# Altium schematic symbol library SN74HC245PW.SchLib: 1 symbol
Pins are listed as number, name and electrical type; pins without a type are passive.

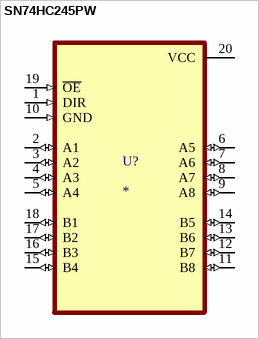
[diagram p0: symbol SN74HC245PW]

## SN74HC245PW
designator U?
MF: {'manufacturer': u'Texas Instruments'}; MP: SN74HC245PW; Value: *; Package: None; Price: None; Availability: Unavailable
footprint SOP65P640X120-20N
pins: 1 DIR (in), 2 A1 (io), 3 A2 (io), 4 A3 (io), 5 A4 (io), 6 A5 (io), 7 A6 (io), 8 A7 (io), 9 A8 (io), 10 GND (in), 11 B8 (io), 12 B7 (io), 13 B6 (io), 14 B5 (io), 15 B4 (io), 16 B3 (io), 17 B2 (io), 18 B1 (io), 19 ~{OE} (in), 20 VCC (power)